# Altium schematic symbol library SCH - POWER - SWITCHMODE - TI TPS62740DSS.SchLib: 1 symbol
Pins are listed as number, name and electrical type; pins without a type are passive.

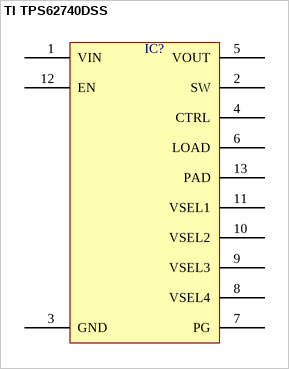
[diagram p0: symbol TI TPS62740DSS]

## TI TPS62740DSS
designator IC?  (value not drawn)
pins: 1 VIN, 2 SW, 3 GND, 4 CTRL, 5 VOUT, 6 LOAD, 7 PG, 8 VSEL4, 9 VSEL3, 10 VSEL2, 11 VSEL1, 12 EN, 13 PAD